# Altium footprint library Orange_LED.PcbLib: 1 footprints
Each footprint in its own frame and in the unit in brackets; x right, y up, seen from the top. Pads: shape width x height; smd on the part's side, far side on the other; paste and mask are expansions set on the pad; w line width, h text height; cw(c..) or ccw(c..) is an arc to the next point about the centre after c.
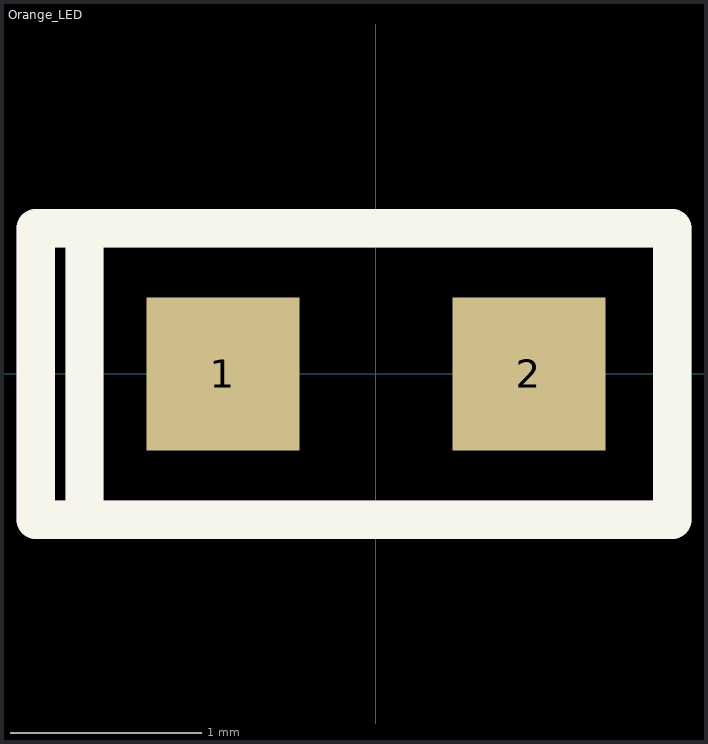
[diagram p0: the footprint, top view; thin cyan lines are the x and y axes]

## Orange_LED [mm]
pads (2):
  rect 0.8x0.8 smd: 1(-0.8,0) 2(0.8,0)
Top Overlay:
  lines w0.2: -1.524,-0.762 -1.778,-0.762 -1.778,-0.406 -1.778,0.356 -1.778,0.762 -1.524,0.762 ; -1.524,-0.762 1.549,-0.762 1.549,-0.381 1.549,0.381 1.549,0.762 -1.524,0.762 ; -1.524,-0.762 -1.524,-0.381 -1.524,0.381 -1.524,0.762
Mechanical 2:
  lines w0.2: -1.524,-0.686 -1.524,0.737 ; -1.778,-0.762 -1.778,0.762 1.549,0.762 1.549,-0.762 -1.778,-0.762
  text ".Designator" at -1.118,-0.359 h0.6
3D body: height 0.66, standoff 0, extent -0.152,-0.152 0.153,0.152
3D body "User Library-LED SMD 0603 super red.step": height 0.65, standoff 0, extent -0.85,-0.394 0.85,0.406